# EAGLE library part AMIS-42770 (library on-semi)
Dual High Speed CAN Transceiver
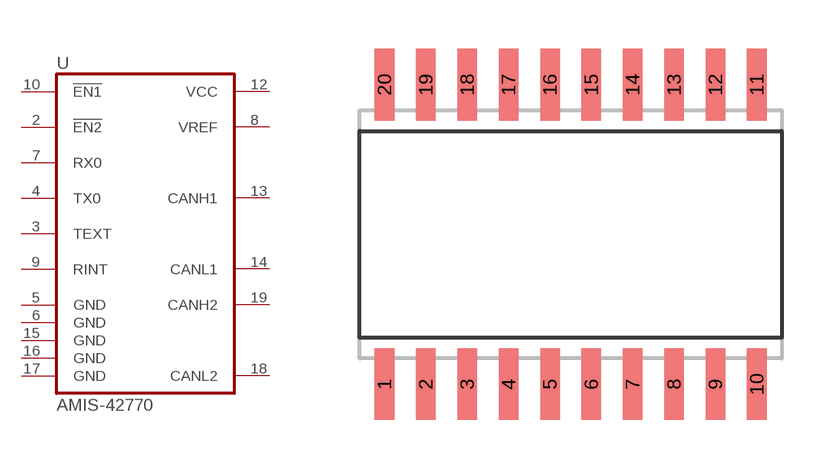
[diagram p1: symbol with the pads of SO20W; footprint SO20W]

Designator prefix U

## AMIS-42770 (P1I: o)  [SO20W]
2  !EN2!  in
3  TEXT
4  TX0  in
5  GND  pwr
6  GND  pwr
7  RX0  out
8  VREF  pas
9  RINT
10  !EN1!  in
12  VCC  pwr
13  CANH1
14  CANL1
15  GND  pwr
16  GND  pwr
17  GND  pwr
18  CANL2
19  CANH2

## Footprint SO20W (pad centres in mm)
SMALL OUTLINE INTEGRATED CIRCUIT wide body 7.5 mm/JEDEC MS-013AC
smd 0.6 x 2.2: 1 -5.715,-4.6; 2 -4.445,-4.6; 3 -3.175,-4.6; 4 -1.905,-4.6; 5 -0.635,-4.6; 6 0.635,-4.6; 7 1.905,-4.6; 8 3.175,-4.6; 9 4.445,-4.6; 10 5.715,-4.6; 11 5.715,4.6; 12 4.445,4.6; 13 3.175,4.6; 14 1.905,4.6; 15 0.635,4.6; 16 -0.635,4.6; 17 -1.905,4.6; 18 -3.175,4.6; 19 -4.445,4.6; 20 -5.715,4.6